# Altium schematic symbol library missing_components.schlib: 4 symbols
Pins are listed as number, name and electrical type; pins without a type are passive.

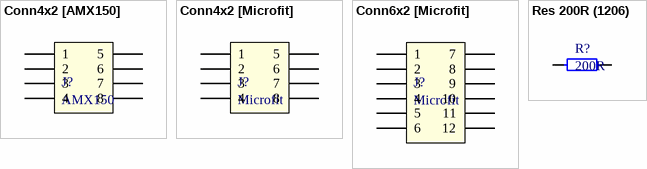
[diagram p0: symbols Conn4x2 [AMX150] to Res 200R (1206)]

## Conn4x2 [AMX150]
designator J?, comment AMX150
PCB Mount Header, Right Angle, Wire-to-Board; Part Number: 348300801; Manufacturer: Molex; Type: Connector; ComponentLink1Description: Molex; ComponentLink1URL: https://www.molex.com/molex/products/part-detail/pcb_headers/0348300801
footprint MX150_4x2
pins: 1, 2, 3, 4, 5, 6, 7, 8

## Conn4x2 [Microfit]
designator J?, comment Microfit
PCB Mount Header, Right Angle,  Wire-to-Board; Part Number: 430450801; Manufacturer: Molex; Type: Connector; ComponentLink1Description: Molex; ComponentLink1URL: https://www.molex.com/molex/products/part-detail/pcb_headers/0430450801
footprint Microfit_4x2
pins: 1, 2, 3, 4, 5, 6, 7, 8

## Conn6x2 [Microfit]
designator J?, comment Microfit
PCB Mount Header, Right Angle,  Wire-to-Board; Part Number: 430451200; Manufacturer: Molex; Type: Connector; ComponentLink1Description: Molex; ComponentLink1URL: https://www.molex.com/molex/products/part-detail/pcb_headers/0430451200
footprint Microfit_6x2
pins: 1, 2, 3, 4, 5, 6, 7, 8, 9, 10, 11, 12

## Res 200R (1206)
designator R?, comment 200R
0.25W 1206 200R, 1%; Part Number: RC0603FR-0730RL; Manufacturer: Taiwan; Type: Resistor; ComponentLink1Description: Chip&Dip; ComponentLink1URL: https://www.chipdip.ru/product0/9000079603
footprint 0603 Resistor
footprint RES1206
pins: 1, 2